# Altium footprint library LM2575.PcbLib: 4 footprints
Each footprint in its own frame and in the unit in brackets; x right, y up, seen from the top. Pads: shape width x height; smd on the part's side, far side on the other; paste and mask are expansions set on the pad; w line width, h text height; cw(c..) or ccw(c..) is an arc to the next point about the centre after c.
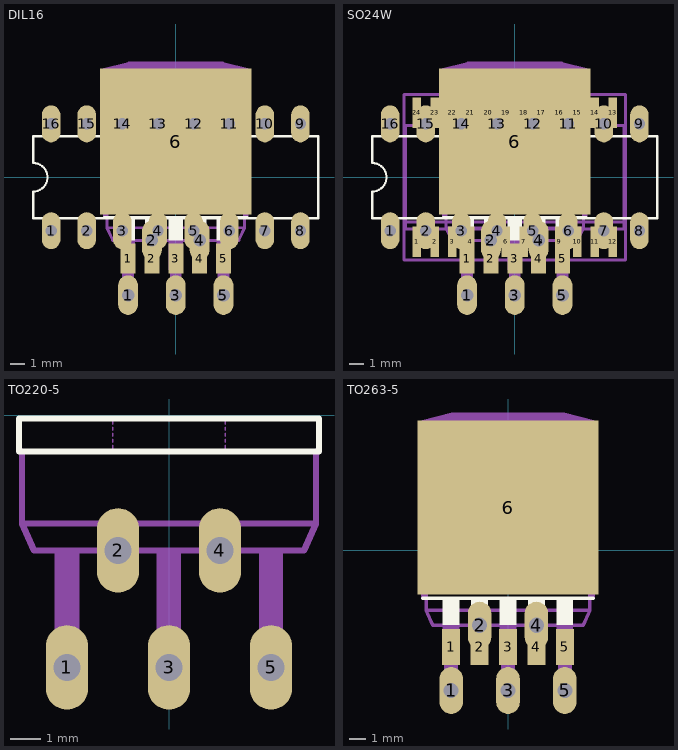
[diagram p0: the footprints below, top view; thin cyan lines are the x and y axes]

## DIL16 [mil]
pads (27):
  oval 52x104 hole 32: 1(-350,-150) 2(-250,-150) 3(-150,-150) 4(-50,-150) 5(50,-150) 6(150,-150) 7(250,-150) 8(350,-150) 9(350,150) 10(250,150) 11(150,150) 12(50,150) 13(-50,150) 14(-150,150) 15(-250,150) 16(-350,150)
  rect 42x85 smd: 1(-134,-228) 2(-67,-228) 3(0,-228) 4(67,-228) 5(134,-228)
  oval 55.43x110.87 hole 35.43: 1(-133.86,-330.71) 2(-66.93,-177.17) 3(0,-330.71) 4(66.93,-177.17) 5(133.86,-330.71)
  rect 425.2x409.84 smd: 6(0,100)
Top Overlay:
  region: -115,-176.26 -153.22,-176.26 -153.22,-110 -115,-110
  region: -48,-176.1 -86.05,-176.1 -86.05,-110 -48,-110
  region: 19,-176.24 -19.03,-176.24 -19.03,-110 19,-110
  region: 86,-176.03 48.01,-176.03 48.01,-110 86,-110
  region: 153,-176.15 115.1,-176.15 115.1,-110 153,-110
  lines w6: -400,-115 400,-115 400,115 -400,115 -400,40 cw(c-400,0) -400,-40 -400,-115
  lines w8: -200.55,-113.39 200.55,-113.39 ; -196.85,-47.24 -196.85,-3.94 196.85,-3.94 196.85,-47.24 -196.85,-47.24
Mechanical 13:
  region: -118.11,-339.17 -149.86,-339.17 -149.86,-295.28 -118.11,-295.28
  region: 15.75,-338.94 -15.76,-338.94 -15.76,-295.28 15.75,-295.28
  region: 149.61,-338.78 118.18,-338.78 118.18,-295.28 149.61,-295.28
  region: -118.11,-295.42 -149.68,-295.42 -149.68,-177.17 -118.11,-177.17
  region: 15.75,-295.38 -15.75,-295.38 -15.75,-177.17 15.75,-177.17
  region: 149.61,-295.44 118.17,-295.44 118.17,-177.17 149.61,-177.17
  region: -51.18,-185.33 -82.81,-185.33 -82.81,-177.17 -51.18,-177.17
  region: 82.68,-185.13 51.21,-185.13 51.21,-177.17 82.68,-177.17
  region: -115,-260.34 -153.2,-260.34 -153.2,-175 -115,-175
  region: -48,-260.22 -86.07,-260.22 -86.07,-175 -48,-175
  region: 19,-260.04 -19,-260.04 -19,-175 19,-175
  region: 86,-260.1 48.02,-260.1 48.02,-175 86,-175
  region: 153,-260.14 115.06,-260.14 115.06,-175 153,-175
  region: 201,302.29 201,286.1 -201,286.1 -201,302.29 -133,320.29 133,320.29
  lines w2: -73.62,-46.06 -73.62,-39.37 ; -73.62,-35.43 -73.62,-31.5 ; -73.62,-27.56 -73.62,-23.62 ; -73.62,-19.68 -73.62,-15.75 ; -73.62,-11.81 -73.62,-7.87 ; 73.62,-46.06 73.62,-39.37 ; 73.62,-35.43 73.62,-31.5 ; 73.62,-27.56 73.62,-23.62 ; 73.62,-19.68 73.62,-15.75 ; 73.62,-11.81 73.62,-7.87
  lines w8: -200.55,-113.39 -200.55,282.09 200.55,282.09 200.55,-113.39 ; -192.91,-47.24 -192.91,-141.73 ; 192.91,-47.24 192.91,-141.73 ; -192.91,-141.73 -177.17,-177.17 177.17,-177.17 192.91,-141.73 ; -192.91,-141.73 192.91,-141.73 ; -200.98,286.1 -200.98,302.28 -132.99,320.28 132.99,320.28 200.98,302.28 200.98,286.1 -200.98,286.1

## SO24W [mm]
pads (51):
  oval 1.321x2.642 hole 0.813: 1(-8.89,-3.81) 2(-6.35,-3.81) 3(-3.81,-3.81) 4(-1.27,-3.81) 5(1.27,-3.81) 6(3.81,-3.81) 7(6.35,-3.81) 8(8.89,-3.81) 9(8.89,3.81) 10(6.35,3.81) 11(3.81,3.81) 12(1.27,3.81) 13(-1.27,3.81) 14(-3.81,3.81) 15(-6.35,3.81) 16(-8.89,3.81)
  rect 0.6x2.2 smd: 1(-6.985,-4.6) 2(-5.715,-4.6) 3(-4.445,-4.6) 4(-3.175,-4.6) 5(-1.905,-4.6) 6(-0.635,-4.6) 7(0.635,-4.6) 8(1.905,-4.6) 9(3.175,-4.6) 10(4.445,-4.6) 11(5.715,-4.6) 12(6.985,-4.6) 13(6.985,4.6) 14(5.715,4.6) 15(4.445,4.6) 16(3.175,4.6) 17(1.905,4.6) 18(0.635,4.6) 19(-0.635,4.6) 20(-1.905,4.6) 21(-3.175,4.6) 22(-4.445,4.6) 23(-5.715,4.6) 24(-6.985,4.6)
  rect 1.067x2.159 smd: 1(-3.404,-5.791) 2(-1.702,-5.791) 3(0,-5.791) 4(1.702,-5.791) 5(3.404,-5.791)
  oval 1.408x2.816 hole 0.9: 1(-3.4,-8.4) 2(-1.7,-4.5) 3(0,-8.4) 4(1.7,-4.5) 5(3.4,-8.4)
  rect 10.8x10.41 smd: 6(0,2.54)
Top Overlay:
  region: -2.921,-4.477 -3.892,-4.477 -3.892,-2.794 -2.921,-2.794
  region: -1.219,-4.473 -2.186,-4.473 -2.186,-2.794 -1.219,-2.794
  region: 0.483,-4.477 -0.483,-4.477 -0.483,-2.794 0.483,-2.794
  region: 2.184,-4.471 1.219,-4.471 1.219,-2.794 2.184,-2.794
  region: 3.886,-4.474 2.923,-4.474 2.923,-2.794 3.886,-2.794
  lines w0.152: -10.16,-2.921 10.16,-2.921 10.16,2.921 -10.16,2.921 -10.16,1.016 cw(c-10.16,0) -10.16,-1.016 -10.16,-2.921
  lines w0.203: -5.094,-2.88 5.094,-2.88 ; -5,-1.2 -5,-0.1 5,-0.1 5,-1.2 -5,-1.2
Mechanical 13:
  drawing of 70 lines, arcs and shapes, not listed
Mechanical 15:
  lines w0.2: -7.895,-5.9 7.895,-5.9 7.895,5.9 -7.895,5.9 -7.895,-5.9

## TO220-5 [mm]
pads (5):
  oval 1.408x2.816 hole 0.9: 1(-3.4,-8.4) 2(-1.7,-4.5) 3(0,-8.4) 4(1.7,-4.5) 5(3.4,-8.4)
Top Overlay:
  lines w0.203: -5,-1.2 -5,-0.1 5,-0.1 5,-1.2 -5,-1.2
Mechanical 13:
  region: -3,-8.615 -3.807,-8.615 -3.807,-7.5 -3,-7.5
  region: 0.4,-8.609 -0.4,-8.609 -0.4,-7.5 0.4,-7.5
  region: 3.8,-8.605 3.002,-8.605 3.002,-7.5 3.8,-7.5
  region: -3,-7.504 -3.802,-7.504 -3.802,-4.5 -3,-4.5
  region: 0.4,-7.503 -0.4,-7.503 -0.4,-4.5 0.4,-4.5
  region: 3.8,-7.504 3.002,-7.504 3.002,-4.5 3.8,-4.5
  region: -1.3,-4.707 -2.103,-4.707 -2.103,-4.5 -1.3,-4.5
  region: 2.1,-4.702 1.301,-4.702 1.301,-4.5 2.1,-4.5
  lines w0.051: -1.87,-1.17 -1.87,-1 ; -1.87,-0.9 -1.87,-0.8 ; -1.87,-0.7 -1.87,-0.6 ; -1.87,-0.5 -1.87,-0.4 ; -1.87,-0.3 -1.87,-0.2 ; 1.87,-1.17 1.87,-1 ; 1.87,-0.9 1.87,-0.8 ; 1.87,-0.7 1.87,-0.6 ; 1.87,-0.5 1.87,-0.4 ; 1.87,-0.3 1.87,-0.2
  lines w0.203: -4.9,-1.2 -4.9,-3.6 ; 4.9,-1.2 4.9,-3.6 ; -4.9,-3.6 -4.5,-4.5 4.5,-4.5 4.9,-3.6 ; -4.9,-3.6 4.9,-3.6

## TO263-5 [mil]
pads (11):
  rect 42x85 smd: 1(-134,-228) 2(-67,-228) 3(0,-228) 4(67,-228) 5(134,-228)
  oval 55.43x110.87 hole 35.43: 1(-133.86,-330.71) 2(-66.93,-177.17) 3(0,-330.71) 4(66.93,-177.17) 5(133.86,-330.71)
  rect 425.2x409.84 smd: 6(0,100)
Top Overlay:
  region: -115,-176.26 -153.22,-176.26 -153.22,-110 -115,-110
  region: -48,-176.1 -86.05,-176.1 -86.05,-110 -48,-110
  region: 19,-176.24 -19.03,-176.24 -19.03,-110 19,-110
  region: 86,-176.03 48.01,-176.03 48.01,-110 86,-110
  region: 153,-176.15 115.1,-176.15 115.1,-110 153,-110
  lines w8: -200.55,-113.39 200.55,-113.39 ; -196.85,-47.24 -196.85,-3.94 196.85,-3.94 196.85,-47.24 -196.85,-47.24
Mechanical 13:
  region: -118.11,-339.17 -149.86,-339.17 -149.86,-295.28 -118.11,-295.28
  region: 15.75,-338.94 -15.76,-338.94 -15.76,-295.28 15.75,-295.28
  region: 149.61,-338.78 118.18,-338.78 118.18,-295.28 149.61,-295.28
  region: -118.11,-295.42 -149.68,-295.42 -149.68,-177.17 -118.11,-177.17
  region: 15.75,-295.38 -15.75,-295.38 -15.75,-177.17 15.75,-177.17
  region: 149.61,-295.44 118.17,-295.44 118.17,-177.17 149.61,-177.17
  region: -51.18,-185.33 -82.81,-185.33 -82.81,-177.17 -51.18,-177.17
  region: 82.68,-185.13 51.21,-185.13 51.21,-177.17 82.68,-177.17
  region: -115,-260.34 -153.2,-260.34 -153.2,-175 -115,-175
  region: -48,-260.22 -86.07,-260.22 -86.07,-175 -48,-175
  region: 19,-260.04 -19,-260.04 -19,-175 19,-175
  region: 86,-260.1 48.02,-260.1 48.02,-175 86,-175
  region: 153,-260.14 115.06,-260.14 115.06,-175 153,-175
  region: 201,302.29 201,286.1 -201,286.1 -201,302.29 -133,320.29 133,320.29
  lines w2: -73.62,-46.06 -73.62,-39.37 ; -73.62,-35.43 -73.62,-31.5 ; -73.62,-27.56 -73.62,-23.62 ; -73.62,-19.68 -73.62,-15.75 ; -73.62,-11.81 -73.62,-7.87 ; 73.62,-46.06 73.62,-39.37 ; 73.62,-35.43 73.62,-31.5 ; 73.62,-27.56 73.62,-23.62 ; 73.62,-19.68 73.62,-15.75 ; 73.62,-11.81 73.62,-7.87
  lines w8: -200.55,-113.39 -200.55,282.09 200.55,282.09 200.55,-113.39 ; -192.91,-47.24 -192.91,-141.73 ; 192.91,-47.24 192.91,-141.73 ; -192.91,-141.73 -177.17,-177.17 177.17,-177.17 192.91,-141.73 ; -192.91,-141.73 192.91,-141.73 ; -200.98,286.1 -200.98,302.28 -132.99,320.28 132.99,320.28 200.98,302.28 200.98,286.1 -200.98,286.1